# Altium footprint library NXP.PcbLib: 2 footprints (part 2 of 2)
Each footprint in its own frame and in the unit in brackets; x right, y up, seen from the top. Pads: shape width x height; smd on the part's side, far side on the other; paste and mask are expansions set on the pad; w line width, h text height; cw(c..) or ccw(c..) is an arc to the next point about the centre after c.
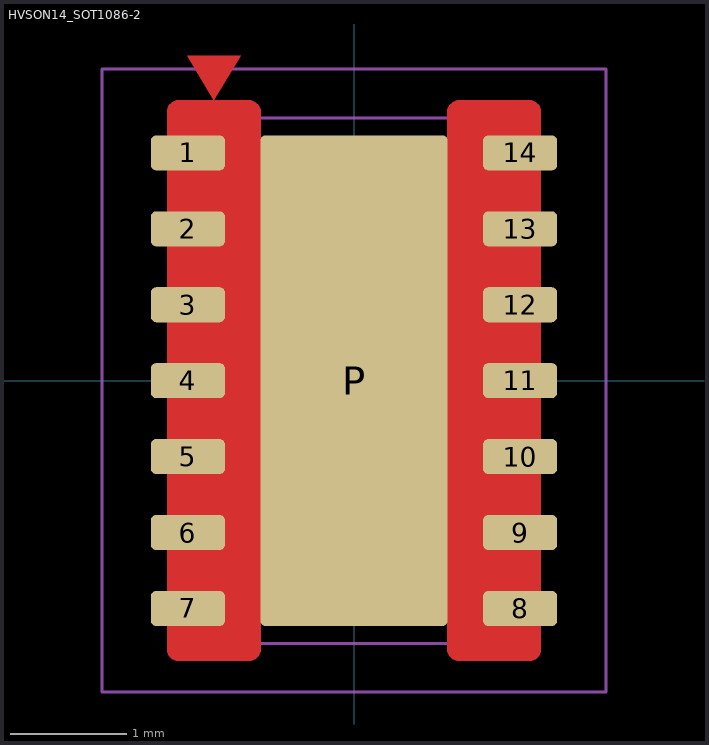
[diagram p1: the footprint, top view; thin cyan lines are the x and y axes]

## HVSON14_SOT1086-2 [mm]
height 0.9
pads (15):
  rrect30% 0.635x0.3 smd mask+0.051: 1(-1.422,1.95) 2(-1.422,1.3) 3(-1.422,0.65) 4(-1.422,0) 5(-1.422,-0.65) 6(-1.422,-1.3) 7(-1.422,-1.95) 8(1.422,-1.95) 9(1.422,-1.3) 10(1.422,-0.65) 11(1.422,0) 12(1.422,0.65) 13(1.422,1.3) 14(1.422,1.95)
  rrect5% 1.6x4.2 smd paste-200 mask+0.051: P(0,0)
Top Layer:
  region: -1.2,2.4 -0.971,2.781 -1.429,2.781
  pour cut-out: -0.8,2.3 -0.8,2.32 -0.815,2.357 -0.843,2.385 -0.88,2.4 -0.9,2.4 -1.5,2.4 -1.52,2.4 -1.557,2.385 -1.585,2.357 -1.6,2.32 -1.6,2.3 -1.6,-2.3 -1.6,-2.32 -1.585,-2.357 -1.557,-2.385 -1.52,-2.4 -1.5,-2.4 -0.9,-2.4 -0.88,-2.4 -0.843,-2.385 -0.815,-2.357 -0.8,-2.32 -0.8,-2.3
  pour cut-out: 0.8,-2.3 0.8,-2.32 0.815,-2.357 0.843,-2.385 0.88,-2.4 0.9,-2.4 1.5,-2.4 1.52,-2.4 1.557,-2.385 1.585,-2.357 1.6,-2.32 1.6,-2.3 1.6,2.3 1.6,2.32 1.585,2.357 1.557,2.385 1.52,2.4 1.5,2.4 0.9,2.4 0.88,2.4 0.843,2.385 0.815,2.357 0.8,2.32 0.8,2.3
Top Paste:
  rectangle: 0.127,1.432 0.762,2.042
  rectangle: 0.127,0.569 0.762,1.178
  rectangle: 0.127,-0.295 0.762,0.315
  rectangle: -0.762,-0.295 -0.127,0.315
  rectangle: -0.762,0.569 -0.127,1.178
  rectangle: -0.762,1.432 -0.127,2.042
  rectangle: -0.762,-1.178 -0.127,-0.569
  rectangle: -0.762,-2.042 -0.127,-1.432
  rectangle: 0.127,-2.042 0.762,-1.432
  rectangle: 0.127,-1.178 0.762,-0.569
Top Component Outline:
  lines w0.025: -2.159,-2.667 -2.159,2.667 2.159,2.667 2.159,-2.667 -2.159,-2.667
Top 3D Body (Mech16):
  lines w0.025: -1.524,-2.1 -1.096,-2.1 -1.096,-1.8 -1.524,-1.8 -1.524,-2.1 ; -1.524,-1.45 -1.096,-1.45 -1.096,-1.15 -1.524,-1.15 -1.524,-1.45 ; -1.524,-0.8 -1.524,-0.5 -1.096,-0.5 -1.096,-0.8 -1.524,-0.8 ; -1.524,-0.15 -1.524,0.15 -1.096,0.15 -1.096,-0.15 -1.524,-0.15 ; -1.524,0.5 -1.524,0.8 -1.096,0.8 -1.096,0.5 -1.524,0.5 ; -1.524,1.15 -1.096,1.15 -1.096,1.45 -1.524,1.45 -1.524,1.15 ; -1.524,1.8 -1.524,2.1 -1.096,2.1 -1.096,1.8 -1.524,1.8 ; -1.5,-2.25 -1.5,2.25 1.5,2.25 1.5,-2.25 -1.5,-2.25 ; 1.096,-2.1 1.096,-1.8 1.524,-1.8 1.524,-2.1 1.096,-2.1 ; 1.096,-1.45 1.524,-1.45 1.524,-1.15 1.096,-1.15 1.096,-1.45 ; 1.096,-0.8 1.096,-0.5 1.524,-0.5 1.524,-0.8 1.096,-0.8 ; 1.096,-0.15 1.524,-0.15 1.524,0.15 1.096,0.15 1.096,-0.15 ; 1.096,0.5 1.096,0.8 1.524,0.8 1.524,0.5 1.096,0.5 ; 1.096,1.15 1.524,1.15 1.524,1.45 1.096,1.45 1.096,1.15 ; 1.096,1.8 1.524,1.8 1.524,2.1 1.096,2.1 1.096,1.8
3D body: height 0.2, standoff 0, extent -1.524,-0.15 -1.096,0.15
3D body: height 0.2, standoff 0, extent -1.524,1.8 -1.096,2.1
3D body: height 0.2, standoff 0, extent -1.524,1.15 -1.096,1.45
3D body: height 0.2, standoff 0, extent -1.524,0.5 -1.096,0.8
3D body: height 0.85, standoff 0.05, extent -1.5,-2.25 1.5,2.25
3D body: height 0.85, standoff 0.84, extent -1.218,1.665 -0.914,1.969
3D body: height 0.2, standoff 0, extent 1.096,1.15 1.524,1.45
3D body: height 0.2, standoff 0, extent 1.096,0.5 1.524,0.8
3D body: height 0.2, standoff 0, extent 1.096,-0.15 1.524,0.15
3D body: height 0.2, standoff 0, extent 1.096,1.8 1.524,2.1
3D body: height 0.2, standoff 0, extent 1.096,-2.1 1.524,-1.8
3D body: height 0.2, standoff 0, extent 1.096,-1.45 1.524,-1.15
3D body: height 0.2, standoff 0, extent 1.096,-0.8 1.524,-0.5
3D body: height 0.2, standoff 0, extent -1.524,-1.45 -1.096,-1.15
3D body: height 0.2, standoff 0, extent -1.524,-0.8 -1.096,-0.5
3D body: height 0.2, standoff 0, extent -1.524,-2.1 -1.096,-1.8